# EAGLE library part VL6180 (library micromouse)
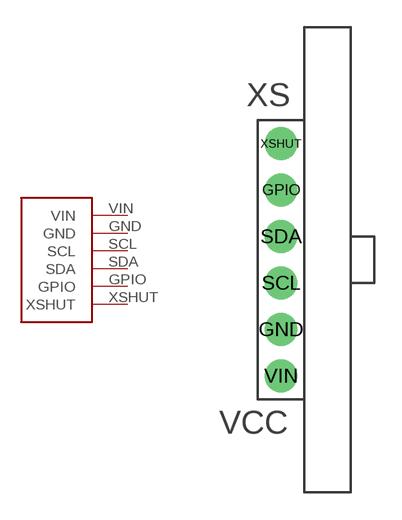
[diagram p0: symbol with the pads of VL6180; footprint VL6180]

Designator prefix VL6180

## VL6180  [VL6180]
GND  GND
GPIO  GPIO
SCL  SCL
SDA  SDA
VIN  VIN
XSHUT  XSHUT

## Footprint VL6180 (pad centres in mm)
drill 1.016 pad 1.778: GND 1.27,3.81; GPIO 1.27,11.43; SCL 1.27,6.35; SDA 1.27,8.89; VIN 1.27,1.27; XSHUT 1.27,13.97